# EAGLE library part BPM390 (library Barometers)
High precision pressure sensor
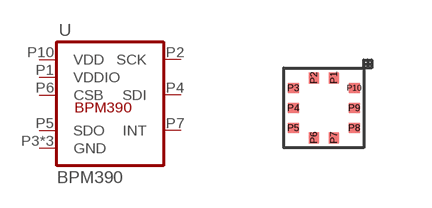
[diagram p1: symbol with the pads of BPM390; footprint BPM390]

Designator prefix U

## BPM390  [BPM390]
P1  VDDIO  pwr
P2  SCK
P3  GND  pwr
P4  SDI
P5  SDO  in
P6  CSB  in
P7  INT
P8  GND  pwr
P9  GND  pwr
P10  VDD  pwr

## Footprint BPM390 (pad centres in mm)
smd 0.25 x 0.275: P1 0.25,0.75; P2 -0.25,0.75; P6 -0.25,-0.75; P7 0.25,-0.75
smd 0.275 x 0.25: P3 -0.762,0.5; P4 -0.762,0; P5 -0.762,-0.5; P8 0.762,-0.5; P9 0.762,0; P10 0.762,0.5